# Altium schematic symbol library KSZ80x1RNL.SchLib: 1 symbol
Pins are listed as number, name and electrical type; pins without a type are passive.

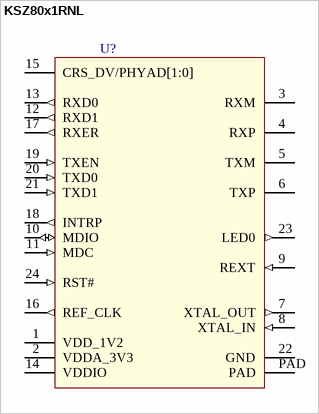
[diagram p0: symbol KSZ80x1RNL]

## KSZ80x1RNL
designator U?  (value not drawn)
Ethernet PHY (RMII); Value: KSZ80x1RNL
pins: 1 VDD_1V2 (power), 2 VDDA_3V3 (power), 3 RXM, 4 RXP, 5 TXM, 6 TXP, 7 XTAL_OUT (out), 8 XTAL_IN (in), 9 REXT (in), 10 MDIO (io), 11 MDC (in), 12 RXD1 (out), 13 RXD0 (out), 14 VDDIO (power), 15 CRS_DV/PHYAD[1:0], 16 REF_CLK (out), 17 RXER (out), 18 INTRP (out), 19 TXEN (in), 20 TXD0 (in), 21 TXD1 (in), 22 GND (power), 23 LED0 (out), 24 RST# (in), PAD